# EAGLE library part AVR-ISP (library 1)
0.1" Header 2x3 ISP programming header
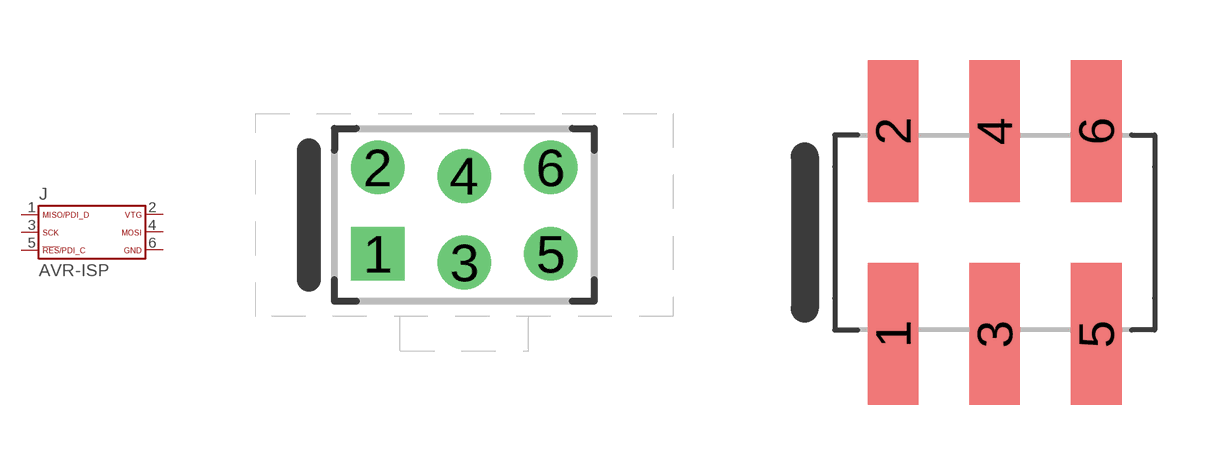
[diagram p8: symbol with the pads of 2X3_TH_OFF; footprints 2X3_TH_OFF, 2X3_SMT]

Designator prefix J

## AVR-ISP (OC_FARNELL: unknown; OC_NEWARK: unknown)  [2X3_TH_OFF]
1  1  pas
2  2  pas
3  3  pas
4  4  pas
5  5  pas
6  6  pas

## AVR-ISPSMT  [2X3_SMT]
Pads as for 2X3_TH_OFF

## AVR-ISPTH  [2X3_TH]
Pads as for 2X3_TH_OFF

## AVR-ISPNOSILK  [2X3_TH_OFF_2]
Pads as for 2X3_TH_OFF

## Footprint 2X3_TH_OFF (pad centres in mm)
PIN HEADER 2x3, 0.1" Pitch
drill 0.914 pad 1.575 square: 1 -2.54,-1.143
drill 0.914 pad 1.575: 2 -2.54,1.397; 3 0,-1.397; 4 0,1.143; 5 2.54,-1.143; 6 2.54,1.397

## Footprint 2X3_SMT (pad centres in mm)
4UCON 15881 Male .1" spaced SMT Keying posts into board
smd 1.27 x 3.556: 1 -2.54,-2.54; 2 -2.54,2.54; 3 0,-2.54; 4 0,2.54; 5 2.54,-2.54; 6 2.54,2.54

## Footprint 2X3_TH (pad centres in mm)
Pin Header 2x3, 0.1"
drill 1.016 pad 1.676 square: 1 -2.54,-1.27
drill 1.016 pad 1.676: 2 -2.54,1.27; 3 0,-1.27; 4 0,1.27; 5 2.54,-1.27; 6 2.54,1.27

## Footprint 2X3_TH_OFF_2 (pad centres in mm)
drill 1.016 pad 1.676 square: 1 -2.54,-1.143
drill 1.016 pad 1.676: 2 -2.54,1.397; 3 0,-1.397; 4 0,1.143; 5 2.54,-1.143; 6 2.54,1.397